# Altium integrated library DS1621.IntLib: 1 symbol
Pins are listed as number, name and electrical type; pins without a type are passive.

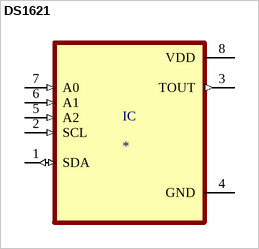
[diagram p0: symbol DS1621]

## DS1621
designator IC
Temperature Sensor Digital, Local -55Â°C ~ 125Â°C 8 b 8-DIP; MF: Maxim Integrated; MP: DS1621; SnapEDA_Link: https://www.snapeda.com/parts/DS1621/Maxim%20Integrated/view-part/1231399/?ref=snap; Price: None; Availability: Unavailable; Package: DIP-8 Maxim Integrated; Value: *
footprint DIP794W47P254L991H457Q8
pins: 1 SDA (io), 2 SCL (in), 3 TOUT (out), 4 GND (power), 5 A2 (in), 6 A1 (in), 7 A0 (in), 8 VDD (power)